# Altium footprint library PCB - REED - MK24-A-3.PCBLIB: 1 footprints
Each footprint in its own frame and in the unit in brackets; x right, y up, seen from the top. Pads: shape width x height; smd on the part's side, far side on the other; paste and mask are expansions set on the pad; w line width, h text height; cw(c..) or ccw(c..) is an arc to the next point about the centre after c.
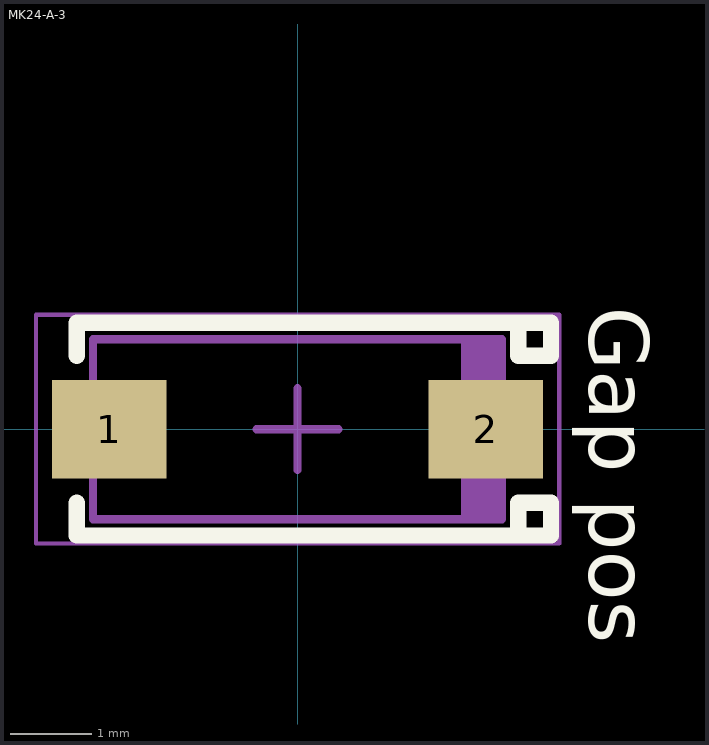
[diagram p0: the footprint, top view; thin cyan lines are the x and y axes]

## MK24-A-3 [mm] "Reed switch, 2-Leads, Body 5x2.2mm, IPC Medium Density"
height 1.6
pads (2):
  rect 1.4x1.2 smd: 1(-2.3,0) 2(2.3,0)
Top Overlay:
  lines w0.2: -2.7,-0.9 -2.7,-1.3 2.7,-1.3 ; -2.7,0.9 -2.7,1.3 2.7,1.3 ; 2.7,-1.3 2.7,-0.9 3.1,-0.9 3.1,-1.3 2.7,-1.3 ; 2.7,1.3 2.7,0.9 3.1,0.9 3.1,1.3 2.7,1.3
  text "Gap pos" at 3.331,1.5 h1.25
Mechanical 13:
  rectangle: 2,-1.1 2.5,1.1
  lines w0.1: -2.5,-1.1 2.5,-1.1 2.5,1.1 -2.5,1.1 -2.5,-1.1
Mechanical 15:
  lines w0.05: -3.2,-1.4 -3.2,1.4 3.2,1.4 3.2,-1.4 -3.2,-1.4
Mechanical 2 (Mech9):
  lines w0.1: -0.5,0 0.5,0 ; 0,-0.5 0,0.5
3D body: height 0.8, standoff 0, extent 2.5,-0.4 2.75,0.4
3D body: height 0.8, standoff 0, extent -2.75,-0.4 -2.5,0.4
3D body: height 1.61, standoff 0, extent 1.5,-1 2.4,1
3D body: height 1.6, standoff 0, extent -2.5,-1.1 2.5,1.1